# Altium schematic symbol library kmilo17pet-TI_BattMgmt.SchLib: 950 symbols (part 41 of 60)
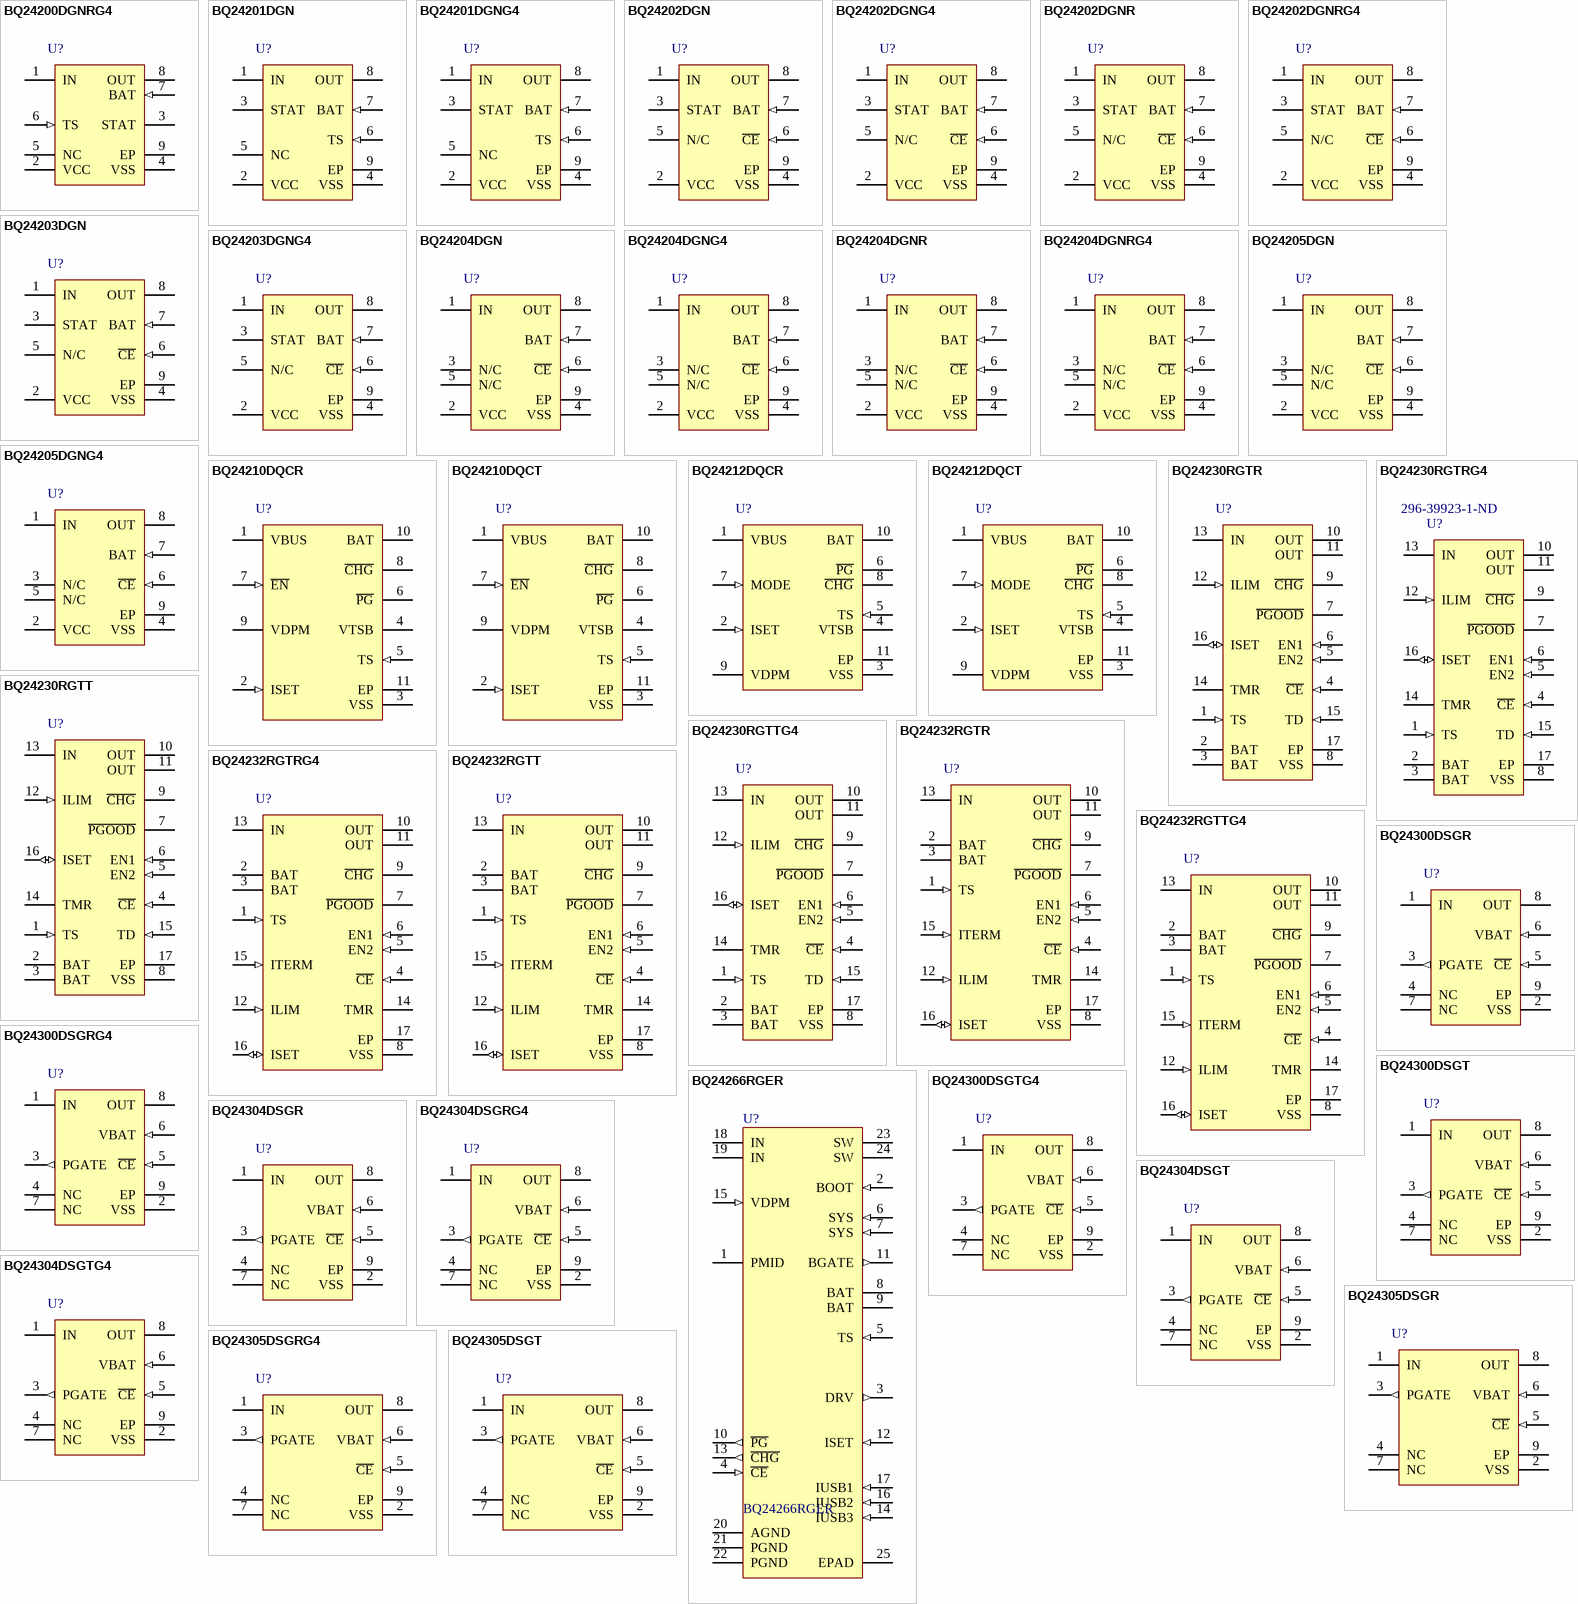
[diagram p74: symbols BQ24200DGNRG4 to BQ24305DSGT]

## BQ24232RGTR
designator U?
USB Friendly 0.5 A Li+ Charger with Dynamic Power Management, 10.5 V OVP, 4.3 V, -40 to 85 degC, 16-pin QFN (RGT), Green (RoHS & no Sb/Br); PartNumber: BQ24232RGTR; Manufacturer: Texas Instruments; Lead Acid: N; SubFamily: Battery Charge Management; Vin(Min)(V): 4.3; DatasheetVersion: SLUS821C; PackageVersion: revH, Oct-2011; PackageReference: RGT16-1700X1700TP; PackageDescription: 16-Pin Plastic Quad Flat No-Lead, 3 x 3 mm Body, 0.5 mm Pitch, 1.7 x 1.7 mm Exposed Pad; Supplier 1: Digi-Key; Supplier Part Number 1: BQ24232RGTR-ND; Eco-Plan: Green (RoHS & no Sb/Br); Li-Ion: N; Li-Polymer: N; NiCd: N; NiMH: N; Over Voltage Protection: N; Mounting Technology: Surface Mount; Code_JEDEC: MO-220; ComponentLink1Description: Datasheet; ComponentLink1URL: http://www.ti.com/general/docs/lit/getliterature.tsp?genericPartNumber=BQ24232&fileType=pdf
footprint RGT16-1700X1700TP (QFN, 16-Leads, Body 3x3mm, Pitch 0.5mm, Thermal Pad 1.7x1.7mm, TI Recommended)
pins: 1 TS (in) "External NTC Thermistor Input. Connect the TS input to the NTC thermistor in the battery pack. TS monitors a 10-k ohm NTC thermistor. For applications that do not utilize the TS function, connect a 10-k ohm fixed resistor (See Datasheet)", 2 BAT (power) "Charger Power Stage Output and Battery Voltage Sense Input. Connect BAT to the positive terminal of the battery. Bypass BAT to VSS with a 4.7-uF to 47-uF ceramic capacitor.", 3 BAT (power) "Charger Power Stage Output and Battery Voltage Sense Input. Connect BAT to the positive terminal of the battery. Bypass BAT to VSS with a 4.7-uF to 47-uF ceramic capacitor.", 4 ~{CE} (in) "Charge Enable Active-Low Input. Connect C\E\ to a high logic level to place the battery charger in standby mode. In standby mode, OUT is active and battery supplement mode is still available. Connect C\E\ to a low logic (See Datasheet)", 5 EN2 (in) "Input Current Limit Configuration Inputs. Use EN2 control the maximum input current and enable USB compliance. See Table 2 for the description of the operation states. EN2 is internally pulled down with ~285 k ohm. Do not (See Datasheet)", 6 EN1 (in) "Input Current Limit Configuration Inputs. Use EN1 control the maximum input current and enable USB compliance. See Table 2 for the description of the operation states. EN1  is internally pulled down with ~285 k ohm. Do not (See Datasheet)", 7 ~{PGOOD} (hiz) "Open-drain Power Good Status Indication Output. P\G\O\O\D\ pulls to VSS when a valid input source is detected. P\G\O\O\D\ is high-impedance when the input power is not within specified limits. Connect P\G\O\O\D\ to the (See Datasheet)", 8 VSS (power) "Ground. Connect to the thermal pad and to the ground rail of the circuit.", 9 ~{CHG} (hiz) "Open-Drain Charging Status Indication Output. C\H\G\ pulls to VSS when the battery is charging. C\H\G\ is high impedance when charging is complete and when charger is disabled.", 10 OUT (power) "System Supply Output. OUT provides a regulated output when the input is below the OVP threshold and above the regulation voltage. When the input is out of the operation range, OUT is connected to VBAT. Connect OUT to the (See Datasheet)", 11 OUT (power) "System Supply Output. OUT provides a regulated output when the input is below the OVP threshold and above the regulation voltage. When the input is out of the operation range, OUT is connected to VBAT. Connect OUT to the (See Datasheet)", 12 ILIM (in) "Adjustable Current Limit Programming Input. Connect a 3.1-k ohm to 7.8-k ohm resistor from ILIM to VSS to program the maximum input current (EN2=1, EN1=0). The input current includes the system load and the battery charge (See Datasheet)", 13 IN (power) "Input Power Connection. Connect IN to the connected to external DC supply (AC adapter or USB port). The input operating range is 4.35 V to 6.6 V. The input can accept voltages up to 26 V without damage but operation is (See Datasheet)", 14 TMR "Timer Programming Input. TMR controls the precharge and fast-charge safety timers. Connect TMR to VSS to disable all safety timers. Connect a 18-k ohm to 72-k ohm resistor between TMR and VSS to program the timers a desired (See Datasheet)", 15 ITERM (in) "Termination Current Programming Input. Connect a 0-ohm to 15-k ohm resistor from ITERM to VSS to program the termination current. Leave ITERM unconnected to set the termination current to the internal default 10% threshold.", 16 ISET (io) "Fast-Charge Current Programming Input. Connect a 3-k ohm to 36-k ohm resistor from ISET to VSS to program the fast-charge current level. Charging is disabled if ISET is left unconnected. While charging, the voltage at ISET (See Datasheet)", 17 EP (power) "An internal electrical connection exists between the exposed thermal pad and the VSS pin of the device. The thermal pad must be connected to the same potential as the VSS pin on the printed-circuit board. Do not use the (See Datasheet)"

## BQ24232RGTRG4
designator U?
USB Friendly 0.5 A Li+ Charger with Dynamic Power Management, 10.5 V OVP, 4.3 V, -40 to 85 degC, 16-pin QFN (RGT), Green (RoHS & no Sb/Br); PartNumber: BQ24232RGTRG4; Manufacturer: Texas Instruments; Lead Acid: N; SubFamily: Battery Charge Management; Vin(Min)(V): 4.3; DatasheetVersion: SLUS821C; PackageVersion: revH, Oct-2011; PackageReference: RGT16-1700X1700TP; PackageDescription: 16-Pin Plastic Quad Flat No-Lead, 3 x 3 mm Body, 0.5 mm Pitch, 1.7 x 1.7 mm Exposed Pad; Supplier 1: Digi-Key; Supplier Part Number 1: BQ24232RGTRG4-ND; Eco-Plan: Green (RoHS & no Sb/Br); Li-Ion: N; Li-Polymer: N; NiCd: N; NiMH: N; Over Voltage Protection: N; Mounting Technology: Surface Mount; Code_JEDEC: MO-220; ComponentLink1Description: Datasheet; ComponentLink1URL: http://www.ti.com/general/docs/lit/getliterature.tsp?genericPartNumber=BQ24232&fileType=pdf
footprint RGT16-1700X1700TP (QFN, 16-Leads, Body 3x3mm, Pitch 0.5mm, Thermal Pad 1.7x1.7mm, TI Recommended)
pins: 1 TS (in) "External NTC Thermistor Input. Connect the TS input to the NTC thermistor in the battery pack. TS monitors a 10-k ohm NTC thermistor. For applications that do not utilize the TS function, connect a 10-k ohm fixed resistor (See Datasheet)", 2 BAT (power) "Charger Power Stage Output and Battery Voltage Sense Input. Connect BAT to the positive terminal of the battery. Bypass BAT to VSS with a 4.7-uF to 47-uF ceramic capacitor.", 3 BAT (power) "Charger Power Stage Output and Battery Voltage Sense Input. Connect BAT to the positive terminal of the battery. Bypass BAT to VSS with a 4.7-uF to 47-uF ceramic capacitor.", 4 ~{CE} (in) "Charge Enable Active-Low Input. Connect C\E\ to a high logic level to place the battery charger in standby mode. In standby mode, OUT is active and battery supplement mode is still available. Connect C\E\ to a low logic (See Datasheet)", 5 EN2 (in) "Input Current Limit Configuration Inputs. Use EN2 control the maximum input current and enable USB compliance. See Table 2 for the description of the operation states. EN2 is internally pulled down with ~285 k ohm. Do not (See Datasheet)", 6 EN1 (in) "Input Current Limit Configuration Inputs. Use EN1 control the maximum input current and enable USB compliance. See Table 2 for the description of the operation states. EN1  is internally pulled down with ~285 k ohm. Do not (See Datasheet)", 7 ~{PGOOD} (hiz) "Open-drain Power Good Status Indication Output. P\G\O\O\D\ pulls to VSS when a valid input source is detected. P\G\O\O\D\ is high-impedance when the input power is not within specified limits. Connect P\G\O\O\D\ to the (See Datasheet)", 8 VSS (power) "Ground. Connect to the thermal pad and to the ground rail of the circuit.", 9 ~{CHG} (hiz) "Open-Drain Charging Status Indication Output. C\H\G\ pulls to VSS when the battery is charging. C\H\G\ is high impedance when charging is complete and when charger is disabled.", 10 OUT (power) "System Supply Output. OUT provides a regulated output when the input is below the OVP threshold and above the regulation voltage. When the input is out of the operation range, OUT is connected to VBAT. Connect OUT to the (See Datasheet)", 11 OUT (power) "System Supply Output. OUT provides a regulated output when the input is below the OVP threshold and above the regulation voltage. When the input is out of the operation range, OUT is connected to VBAT. Connect OUT to the (See Datasheet)", 12 ILIM (in) "Adjustable Current Limit Programming Input. Connect a 3.1-k ohm to 7.8-k ohm resistor from ILIM to VSS to program the maximum input current (EN2=1, EN1=0). The input current includes the system load and the battery charge (See Datasheet)", 13 IN (power) "Input Power Connection. Connect IN to the connected to external DC supply (AC adapter or USB port). The input operating range is 4.35 V to 6.6 V. The input can accept voltages up to 26 V without damage but operation is (See Datasheet)", 14 TMR "Timer Programming Input. TMR controls the precharge and fast-charge safety timers. Connect TMR to VSS to disable all safety timers. Connect a 18-k ohm to 72-k ohm resistor between TMR and VSS to program the timers a desired (See Datasheet)", 15 ITERM (in) "Termination Current Programming Input. Connect a 0-ohm to 15-k ohm resistor from ITERM to VSS to program the termination current. Leave ITERM unconnected to set the termination current to the internal default 10% threshold.", 16 ISET (io) "Fast-Charge Current Programming Input. Connect a 3-k ohm to 36-k ohm resistor from ISET to VSS to program the fast-charge current level. Charging is disabled if ISET is left unconnected. While charging, the voltage at ISET (See Datasheet)", 17 EP (power) "An internal electrical connection exists between the exposed thermal pad and the VSS pin of the device. The thermal pad must be connected to the same potential as the VSS pin on the printed-circuit board. Do not use the (See Datasheet)"

## BQ24232RGTT
designator U?
USB Friendly 0.5 A Li+ Charger with Dynamic Power Management, 10.5 V OVP, 4.3 V, -40 to 85 degC, 16-pin QFN (RGT), Green (RoHS & no Sb/Br); PartNumber: BQ24232RGTT; Manufacturer: Texas Instruments; Lead Acid: N; SubFamily: Battery Charge Management; Vin(Min)(V): 4.3; DatasheetVersion: SLUS821C; PackageVersion: revH, Oct-2011; PackageReference: RGT16-1700X1700TP; PackageDescription: 16-Pin Plastic Quad Flat No-Lead, 3 x 3 mm Body, 0.5 mm Pitch, 1.7 x 1.7 mm Exposed Pad; Supplier 1: Digi-Key; Supplier Part Number 1: 296-24668-2-ND; Supplier Part Number 3: 296-24668-6-ND; Eco-Plan: Green (RoHS & no Sb/Br); Li-Ion: N; Li-Polymer: N; NiCd: N; NiMH: N; Over Voltage Protection: N; Mounting Technology: Surface Mount; Code_JEDEC: MO-220; ComponentLink1Description: Datasheet; ComponentLink1URL: http://www.ti.com/general/docs/lit/getliterature.tsp?genericPartNumber=BQ24232&fileType=pdf
footprint RGT16-1700X1700TP (QFN, 16-Leads, Body 3x3mm, Pitch 0.5mm, Thermal Pad 1.7x1.7mm, TI Recommended)
pins: 1 TS (in) "External NTC Thermistor Input. Connect the TS input to the NTC thermistor in the battery pack. TS monitors a 10-k ohm NTC thermistor. For applications that do not utilize the TS function, connect a 10-k ohm fixed resistor (See Datasheet)", 2 BAT (power) "Charger Power Stage Output and Battery Voltage Sense Input. Connect BAT to the positive terminal of the battery. Bypass BAT to VSS with a 4.7-uF to 47-uF ceramic capacitor.", 3 BAT (power) "Charger Power Stage Output and Battery Voltage Sense Input. Connect BAT to the positive terminal of the battery. Bypass BAT to VSS with a 4.7-uF to 47-uF ceramic capacitor.", 4 ~{CE} (in) "Charge Enable Active-Low Input. Connect C\E\ to a high logic level to place the battery charger in standby mode. In standby mode, OUT is active and battery supplement mode is still available. Connect C\E\ to a low logic (See Datasheet)", 5 EN2 (in) "Input Current Limit Configuration Inputs. Use EN2 control the maximum input current and enable USB compliance. See Table 2 for the description of the operation states. EN2 is internally pulled down with ~285 k ohm. Do not (See Datasheet)", 6 EN1 (in) "Input Current Limit Configuration Inputs. Use EN1 control the maximum input current and enable USB compliance. See Table 2 for the description of the operation states. EN1  is internally pulled down with ~285 k ohm. Do not (See Datasheet)", 7 ~{PGOOD} (hiz) "Open-drain Power Good Status Indication Output. P\G\O\O\D\ pulls to VSS when a valid input source is detected. P\G\O\O\D\ is high-impedance when the input power is not within specified limits. Connect P\G\O\O\D\ to the (See Datasheet)", 8 VSS (power) "Ground. Connect to the thermal pad and to the ground rail of the circuit.", 9 ~{CHG} (hiz) "Open-Drain Charging Status Indication Output. C\H\G\ pulls to VSS when the battery is charging. C\H\G\ is high impedance when charging is complete and when charger is disabled.", 10 OUT (power) "System Supply Output. OUT provides a regulated output when the input is below the OVP threshold and above the regulation voltage. When the input is out of the operation range, OUT is connected to VBAT. Connect OUT to the (See Datasheet)", 11 OUT (power) "System Supply Output. OUT provides a regulated output when the input is below the OVP threshold and above the regulation voltage. When the input is out of the operation range, OUT is connected to VBAT. Connect OUT to the (See Datasheet)", 12 ILIM (in) "Adjustable Current Limit Programming Input. Connect a 3.1-k ohm to 7.8-k ohm resistor from ILIM to VSS to program the maximum input current (EN2=1, EN1=0). The input current includes the system load and the battery charge (See Datasheet)", 13 IN (power) "Input Power Connection. Connect IN to the connected to external DC supply (AC adapter or USB port). The input operating range is 4.35 V to 6.6 V. The input can accept voltages up to 26 V without damage but operation is (See Datasheet)", 14 TMR "Timer Programming Input. TMR controls the precharge and fast-charge safety timers. Connect TMR to VSS to disable all safety timers. Connect a 18-k ohm to 72-k ohm resistor between TMR and VSS to program the timers a desired (See Datasheet)", 15 ITERM (in) "Termination Current Programming Input. Connect a 0-ohm to 15-k ohm resistor from ITERM to VSS to program the termination current. Leave ITERM unconnected to set the termination current to the internal default 10% threshold.", 16 ISET (io) "Fast-Charge Current Programming Input. Connect a 3-k ohm to 36-k ohm resistor from ISET to VSS to program the fast-charge current level. Charging is disabled if ISET is left unconnected. While charging, the voltage at ISET (See Datasheet)", 17 EP (power) "An internal electrical connection exists between the exposed thermal pad and the VSS pin of the device. The thermal pad must be connected to the same potential as the VSS pin on the printed-circuit board. Do not use the (See Datasheet)"

## BQ24232RGTTG4
designator U?
USB Friendly 0.5 A Li+ Charger with Dynamic Power Management, 10.5 V OVP, 4.3 V, -40 to 85 degC, 16-pin QFN (RGT), Green (RoHS & no Sb/Br); PartNumber: BQ24232RGTTG4; Manufacturer: Texas Instruments; Lead Acid: N; SubFamily: Battery Charge Management; Vin(Min)(V): 4.3; DatasheetVersion: SLUS821C; PackageVersion: revH, Oct-2011; PackageReference: RGT16-1700X1700TP; PackageDescription: 16-Pin Plastic Quad Flat No-Lead, 3 x 3 mm Body, 0.5 mm Pitch, 1.7 x 1.7 mm Exposed Pad; Supplier 1: Digi-Key; Supplier Part Number 1: BQ24232RGTTG4-ND; Eco-Plan: Green (RoHS & no Sb/Br); Li-Ion: N; Li-Polymer: N; NiCd: N; NiMH: N; Over Voltage Protection: N; Mounting Technology: Surface Mount; Code_JEDEC: MO-220; ComponentLink1Description: Datasheet; ComponentLink1URL: http://www.ti.com/general/docs/lit/getliterature.tsp?genericPartNumber=BQ24232&fileType=pdf
footprint RGT16-1700X1700TP (QFN, 16-Leads, Body 3x3mm, Pitch 0.5mm, Thermal Pad 1.7x1.7mm, TI Recommended)
pins: 1 TS (in) "External NTC Thermistor Input. Connect the TS input to the NTC thermistor in the battery pack. TS monitors a 10-k ohm NTC thermistor. For applications that do not utilize the TS function, connect a 10-k ohm fixed resistor (See Datasheet)", 2 BAT (power) "Charger Power Stage Output and Battery Voltage Sense Input. Connect BAT to the positive terminal of the battery. Bypass BAT to VSS with a 4.7-uF to 47-uF ceramic capacitor.", 3 BAT (power) "Charger Power Stage Output and Battery Voltage Sense Input. Connect BAT to the positive terminal of the battery. Bypass BAT to VSS with a 4.7-uF to 47-uF ceramic capacitor.", 4 ~{CE} (in) "Charge Enable Active-Low Input. Connect C\E\ to a high logic level to place the battery charger in standby mode. In standby mode, OUT is active and battery supplement mode is still available. Connect C\E\ to a low logic (See Datasheet)", 5 EN2 (in) "Input Current Limit Configuration Inputs. Use EN2 control the maximum input current and enable USB compliance. See Table 2 for the description of the operation states. EN2 is internally pulled down with ~285 k ohm. Do not (See Datasheet)", 6 EN1 (in) "Input Current Limit Configuration Inputs. Use EN1 control the maximum input current and enable USB compliance. See Table 2 for the description of the operation states. EN1  is internally pulled down with ~285 k ohm. Do not (See Datasheet)", 7 ~{PGOOD} (hiz) "Open-drain Power Good Status Indication Output. P\G\O\O\D\ pulls to VSS when a valid input source is detected. P\G\O\O\D\ is high-impedance when the input power is not within specified limits. Connect P\G\O\O\D\ to the (See Datasheet)", 8 VSS (power) "Ground. Connect to the thermal pad and to the ground rail of the circuit.", 9 ~{CHG} (hiz) "Open-Drain Charging Status Indication Output. C\H\G\ pulls to VSS when the battery is charging. C\H\G\ is high impedance when charging is complete and when charger is disabled.", 10 OUT (power) "System Supply Output. OUT provides a regulated output when the input is below the OVP threshold and above the regulation voltage. When the input is out of the operation range, OUT is connected to VBAT. Connect OUT to the (See Datasheet)", 11 OUT (power) "System Supply Output. OUT provides a regulated output when the input is below the OVP threshold and above the regulation voltage. When the input is out of the operation range, OUT is connected to VBAT. Connect OUT to the (See Datasheet)", 12 ILIM (in) "Adjustable Current Limit Programming Input. Connect a 3.1-k ohm to 7.8-k ohm resistor from ILIM to VSS to program the maximum input current (EN2=1, EN1=0). The input current includes the system load and the battery charge (See Datasheet)", 13 IN (power) "Input Power Connection. Connect IN to the connected to external DC supply (AC adapter or USB port). The input operating range is 4.35 V to 6.6 V. The input can accept voltages up to 26 V without damage but operation is (See Datasheet)", 14 TMR "Timer Programming Input. TMR controls the precharge and fast-charge safety timers. Connect TMR to VSS to disable all safety timers. Connect a 18-k ohm to 72-k ohm resistor between TMR and VSS to program the timers a desired (See Datasheet)", 15 ITERM (in) "Termination Current Programming Input. Connect a 0-ohm to 15-k ohm resistor from ITERM to VSS to program the termination current. Leave ITERM unconnected to set the termination current to the internal default 10% threshold.", 16 ISET (io) "Fast-Charge Current Programming Input. Connect a 3-k ohm to 36-k ohm resistor from ISET to VSS to program the fast-charge current level. Charging is disabled if ISET is left unconnected. While charging, the voltage at ISET (See Datasheet)", 17 EP (power) "An internal electrical connection exists between the exposed thermal pad and the VSS pin of the device. The thermal pad must be connected to the same potential as the VSS pin on the printed-circuit board. Do not use the (See Datasheet)"

## BQ24266RGER
designator U?
IC BATT CHARGER LI-ION 24VQFN; Manufacturer: Texas Instruments; Battery Chemistry: Lithium-Ion; Number of Cells: 1; Current - Charging: Constant - Programmable; Fault Protection: Over Temperature, Over Voltage; Charge Current - Max: 3A; Battery Pack Voltage: 4.2V; Voltage - Supply (Max): 14V; Interface: USB; Supplier 1: Digi-Key; Manufacturer Part Number: BQ24266RGER; RoHS: RoHS Compliant; Category: Integrated Circuits (ICs); Stock 1: 6527; Pricing 1: 1=4.3, 10=3.861, 100=3.1634, 500=2.69294, 1000=2.27115 (USD); Packaging: Cut Tape (CT); Part Status: Active; Programmable Features: -; Operating Temperature: -40°C ~ 85°C (TA); Package / Case: 24-VFQFN Exposed Pad; Supplier Device Package: 24-VQFN (4x4); Base Part Number: BQ24266; ComponentLink1URL: http://www.ti.com/lit/ds/symlink/bq24266.pdf; ComponentLink1Description: http://www.ti.com/lit/ds/symlink/bq24266.pdf; Value: BQ24266RGER; Supplier Part Number 1: 296-39923-1-ND
footprint 24VQFN_4x4 (QFN, 24-Leads, Body 4.00x4.00mm, Pitch 0.50mm, Thermal Pad 2.70x2.70mm, IPC Medium Density)
pins: 1 PMID, 2 BOOT (in), 3 DRV (out), 4 ~{CE} (in), 5 TS (in), 6 SYS (in), 7 SYS (in), 8 BAT, 9 BAT, 10 ~{PG} (out), 11 BGATE (out), 12 ISET (in), 13 ~{CHG} (out), 14 IUSB3 (in), 15 VDPM (in), 16 IUSB2 (in), 17 IUSB1 (in), 18 IN, 19 IN, 20 AGND, 21 PGND, 22 PGND, 23 SW, 24 SW, 25 EPAD

## BQ24300DSGR
designator U?
Charger Front End Protection IC with 30 V Max Vin and 5.5 V LDO Output, 0 to 125 degC, 8-pin WSON (DSG), Green (RoHS & no Sb/Br); PartNumber: BQ24300DSGR; Manufacturer: Texas Instruments; Lead Acid: N; DatasheetVersion: SLUS764C; PackageVersion: revB, Oct-2010; PackageReference: DSG8-1600X900TP; PackageDescription: 8-Pin Plastic Small Outline No-Lead, 2 x 2 x 0.8 mm Body, 0.5 mm Pitch, Exposed Pad; Supplier 1: Digi-Key; Supplier Part Number 1: 296-23075-2-ND; Supplier Part Number 3: 296-23075-6-ND; Eco-Plan: Green (RoHS & no Sb/Br); Li-Ion: N; Li-Polymer: N; NiCd: N; NiMH: N; Over Voltage Protection: N; SubFamily: Charger Front End Protection; Mounting Technology: Surface Mount; Code_JEDEC: MO-229; ComponentLink1Description: Datasheet; ComponentLink1URL: http://www.ti.com/general/docs/lit/getliterature.tsp?genericPartNumber=BQ24300&fileType=pdf
footprint DSG8-1600X900TP (SON, 8-Leads, Body 2x2mm, Pitch 0.5mm, Thermal Pad 1.6x0.9mm, TI Recommended)
pins: 1 IN (power) "Input power, connect to external DC supply. Connect external 0.1uF (minimum) ceramic capacitor to VSS", 2 VSS (power) "Ground terminal", 3 PGATE (out) "Gate drive for optional external P-FET", 4 NC "Do not connect to any external circuit. These pins may have internal connections used for test purposes.", 5 ~{CE} (in) "Chip enable input. Active low. When C\E\ = Hi, the input FET is off. Internally pulled down.", 6 VBAT (in) "Battery voltage sense input. Connect to pack positive terminal through a resistor.", 7 NC "Do not connect to any external circuit. These pins may have internal connections used for test purposes.", 8 OUT (power) "Output terminal to the charging system. Connect external 1uF capacitor (minimum) ceramic capacitor to VSS", 9 EP (power) "There is an internal electrical connection between the exposed thermal pad and the VSS pin of the device. The thermal pad must be connected to the same potential as the VSS pin on the printed circuit board. Do not use the (See Datasheet)"

## BQ24300DSGRG4
designator U?
Charger Front End Protection IC with 30 V Max Vin and 5.5 V LDO Output, 0 to 125 degC, 8-pin WSON (DSG), Green (RoHS & no Sb/Br); PartNumber: BQ24300DSGRG4; Manufacturer: Texas Instruments; Lead Acid: N; DatasheetVersion: SLUS764C; PackageVersion: revB, Oct-2010; PackageReference: DSG8-1600X900TP; PackageDescription: 8-Pin Plastic Small Outline No-Lead, 2 x 2 x 0.8 mm Body, 0.5 mm Pitch, Exposed Pad; Supplier 1: Digi-Key; Supplier Part Number 1: BQ24300DSGRG4-ND; Eco-Plan: Green (RoHS & no Sb/Br); Li-Ion: N; Li-Polymer: N; NiCd: N; NiMH: N; Over Voltage Protection: N; SubFamily: Charger Front End Protection; Mounting Technology: Surface Mount; Code_JEDEC: MO-229; ComponentLink1Description: Datasheet; ComponentLink1URL: http://www.ti.com/general/docs/lit/getliterature.tsp?genericPartNumber=BQ24300&fileType=pdf
footprint DSG8-1600X900TP (SON, 8-Leads, Body 2x2mm, Pitch 0.5mm, Thermal Pad 1.6x0.9mm, TI Recommended)
pins: 1 IN (power) "Input power, connect to external DC supply. Connect external 0.1uF (minimum) ceramic capacitor to VSS", 2 VSS (power) "Ground terminal", 3 PGATE (out) "Gate drive for optional external P-FET", 4 NC "Do not connect to any external circuit. These pins may have internal connections used for test purposes.", 5 ~{CE} (in) "Chip enable input. Active low. When C\E\ = Hi, the input FET is off. Internally pulled down.", 6 VBAT (in) "Battery voltage sense input. Connect to pack positive terminal through a resistor.", 7 NC "Do not connect to any external circuit. These pins may have internal connections used for test purposes.", 8 OUT (power) "Output terminal to the charging system. Connect external 1uF capacitor (minimum) ceramic capacitor to VSS", 9 EP (power) "There is an internal electrical connection between the exposed thermal pad and the VSS pin of the device. The thermal pad must be connected to the same potential as the VSS pin on the printed circuit board. Do not use the (See Datasheet)"

## BQ24300DSGT
designator U?
Charger Front End Protection IC with 30 V Max Vin and 5.5 V LDO Output, 0 to 125 degC, 8-pin WSON (DSG), Green (RoHS & no Sb/Br); PartNumber: BQ24300DSGT; Manufacturer: Texas Instruments; Lead Acid: N; DatasheetVersion: SLUS764C; PackageVersion: revB, Oct-2010; PackageReference: DSG8-1600X900TP; PackageDescription: 8-Pin Plastic Small Outline No-Lead, 2 x 2 x 0.8 mm Body, 0.5 mm Pitch, Exposed Pad; Supplier 1: Digi-Key; Supplier Part Number 1: BQ24300DSGT-ND; Eco-Plan: Green (RoHS & no Sb/Br); Li-Ion: N; Li-Polymer: N; NiCd: N; NiMH: N; Over Voltage Protection: N; SubFamily: Charger Front End Protection; Mounting Technology: Surface Mount; Code_JEDEC: MO-229; ComponentLink1Description: Datasheet; ComponentLink1URL: http://www.ti.com/general/docs/lit/getliterature.tsp?genericPartNumber=BQ24300&fileType=pdf
footprint DSG8-1600X900TP (SON, 8-Leads, Body 2x2mm, Pitch 0.5mm, Thermal Pad 1.6x0.9mm, TI Recommended)
pins: 1 IN (power) "Input power, connect to external DC supply. Connect external 0.1uF (minimum) ceramic capacitor to VSS", 2 VSS (power) "Ground terminal", 3 PGATE (out) "Gate drive for optional external P-FET", 4 NC "Do not connect to any external circuit. These pins may have internal connections used for test purposes.", 5 ~{CE} (in) "Chip enable input. Active low. When C\E\ = Hi, the input FET is off. Internally pulled down.", 6 VBAT (in) "Battery voltage sense input. Connect to pack positive terminal through a resistor.", 7 NC "Do not connect to any external circuit. These pins may have internal connections used for test purposes.", 8 OUT (power) "Output terminal to the charging system. Connect external 1uF capacitor (minimum) ceramic capacitor to VSS", 9 EP (power) "There is an internal electrical connection between the exposed thermal pad and the VSS pin of the device. The thermal pad must be connected to the same potential as the VSS pin on the printed circuit board. Do not use the (See Datasheet)"

## BQ24300DSGTG4
designator U?
Charger Front End Protection IC with 30 V Max Vin and 5.5 V LDO Output, 0 to 125 degC, 8-pin WSON (DSG), Green (RoHS & no Sb/Br); PartNumber: BQ24300DSGTG4; Manufacturer: Texas Instruments; Lead Acid: N; DatasheetVersion: SLUS764C; PackageVersion: revB, Oct-2010; PackageReference: DSG8-1600X900TP; PackageDescription: 8-Pin Plastic Small Outline No-Lead, 2 x 2 x 0.8 mm Body, 0.5 mm Pitch, Exposed Pad; Supplier 1: Digi-Key; Supplier Part Number 1: BQ24300DSGTG4-ND; Eco-Plan: Green (RoHS & no Sb/Br); Li-Ion: N; Li-Polymer: N; NiCd: N; NiMH: N; Over Voltage Protection: N; SubFamily: Charger Front End Protection; Mounting Technology: Surface Mount; Code_JEDEC: MO-229; ComponentLink1Description: Datasheet; ComponentLink1URL: http://www.ti.com/general/docs/lit/getliterature.tsp?genericPartNumber=BQ24300&fileType=pdf
footprint DSG8-1600X900TP (SON, 8-Leads, Body 2x2mm, Pitch 0.5mm, Thermal Pad 1.6x0.9mm, TI Recommended)
pins: 1 IN (power) "Input power, connect to external DC supply. Connect external 0.1uF (minimum) ceramic capacitor to VSS", 2 VSS (power) "Ground terminal", 3 PGATE (out) "Gate drive for optional external P-FET", 4 NC "Do not connect to any external circuit. These pins may have internal connections used for test purposes.", 5 ~{CE} (in) "Chip enable input. Active low. When C\E\ = Hi, the input FET is off. Internally pulled down.", 6 VBAT (in) "Battery voltage sense input. Connect to pack positive terminal through a resistor.", 7 NC "Do not connect to any external circuit. These pins may have internal connections used for test purposes.", 8 OUT (power) "Output terminal to the charging system. Connect external 1uF capacitor (minimum) ceramic capacitor to VSS", 9 EP (power) "There is an internal electrical connection between the exposed thermal pad and the VSS pin of the device. The thermal pad must be connected to the same potential as the VSS pin on the printed circuit board. Do not use the (See Datasheet)"

## BQ24304DSGR
designator U?
Charger Front End Protection IC with 30 V Max Vin and 4.5 V LDO Output, 0 to 125 degC, 8-pin WSON (DSG), Green (RoHS & no Sb/Br); PartNumber: BQ24304DSGR; Manufacturer: Texas Instruments; Lead Acid: N; DatasheetVersion: SLUS764C; PackageVersion: revB, Oct-2010; PackageReference: DSG8-1600X900TP; PackageDescription: 8-Pin Plastic Small Outline No-Lead, 2 x 2 x 0.8 mm Body, 0.5 mm Pitch, Exposed Pad; Supplier 1: Digi-Key; Supplier Part Number 1: 296-23076-2-ND; Supplier Part Number 3: 296-23076-6-ND; Eco-Plan: Green (RoHS & no Sb/Br); Li-Ion: N; Li-Polymer: N; NiCd: N; NiMH: N; Over Voltage Protection: N; SubFamily: Charger Front End Protection; Mounting Technology: Surface Mount; Code_JEDEC: MO-229; ComponentLink1Description: Datasheet; ComponentLink1URL: http://www.ti.com/general/docs/lit/getliterature.tsp?genericPartNumber=BQ24304&fileType=pdf
footprint DSG8-1600X900TP (SON, 8-Leads, Body 2x2mm, Pitch 0.5mm, Thermal Pad 1.6x0.9mm, TI Recommended)
pins: 1 IN (power) "Input power, connect to external DC supply. Connect external 0.1uF (minimum) ceramic capacitor to VSS", 2 VSS (power) "Ground terminal", 3 PGATE (out) "Gate drive for optional external P-FET", 4 NC "Do not connect to any external circuit. These pins may have internal connections used for test purposes.", 5 ~{CE} (in) "Chip enable input. Active low. When C\E\ = Hi, the input FET is off. Internally pulled down.", 6 VBAT (in) "Battery voltage sense input. Connect to pack positive terminal through a resistor.", 7 NC "Do not connect to any external circuit. These pins may have internal connections used for test purposes.", 8 OUT (power) "Output terminal to the charging system. Connect external 1uF capacitor (minimum) ceramic capacitor to VSS", 9 EP (power) "There is an internal electrical connection between the exposed thermal pad and the VSS pin of the device. The thermal pad must be connected to the same potential as the VSS pin on the printed circuit board. Do not use the (See Datasheet)"

## BQ24304DSGRG4
designator U?
Charger Front End Protection IC with 30 V Max Vin and 4.5 V LDO Output, 0 to 125 degC, 8-pin WSON (DSG), Green (RoHS & no Sb/Br); PartNumber: BQ24304DSGRG4; Manufacturer: Texas Instruments; Lead Acid: N; DatasheetVersion: SLUS764C; PackageVersion: revB, Oct-2010; PackageReference: DSG8-1600X900TP; PackageDescription: 8-Pin Plastic Small Outline No-Lead, 2 x 2 x 0.8 mm Body, 0.5 mm Pitch, Exposed Pad; Supplier 1: Digi-Key; Supplier Part Number 1: BQ24304DSGRG4-ND; Eco-Plan: Green (RoHS & no Sb/Br); Li-Ion: N; Li-Polymer: N; NiCd: N; NiMH: N; Over Voltage Protection: N; SubFamily: Charger Front End Protection; Mounting Technology: Surface Mount; Code_JEDEC: MO-229; ComponentLink1Description: Datasheet; ComponentLink1URL: http://www.ti.com/general/docs/lit/getliterature.tsp?genericPartNumber=BQ24304&fileType=pdf
footprint DSG8-1600X900TP (SON, 8-Leads, Body 2x2mm, Pitch 0.5mm, Thermal Pad 1.6x0.9mm, TI Recommended)
pins: 1 IN (power) "Input power, connect to external DC supply. Connect external 0.1uF (minimum) ceramic capacitor to VSS", 2 VSS (power) "Ground terminal", 3 PGATE (out) "Gate drive for optional external P-FET", 4 NC "Do not connect to any external circuit. These pins may have internal connections used for test purposes.", 5 ~{CE} (in) "Chip enable input. Active low. When C\E\ = Hi, the input FET is off. Internally pulled down.", 6 VBAT (in) "Battery voltage sense input. Connect to pack positive terminal through a resistor.", 7 NC "Do not connect to any external circuit. These pins may have internal connections used for test purposes.", 8 OUT (power) "Output terminal to the charging system. Connect external 1uF capacitor (minimum) ceramic capacitor to VSS", 9 EP (power) "There is an internal electrical connection between the exposed thermal pad and the VSS pin of the device. The thermal pad must be connected to the same potential as the VSS pin on the printed circuit board. Do not use the (See Datasheet)"

## BQ24304DSGT
designator U?
Charger Front End Protection IC with 30 V Max Vin and 4.5 V LDO Output, 0 to 125 degC, 8-pin WSON (DSG), Green (RoHS & no Sb/Br); PartNumber: BQ24304DSGT; Manufacturer: Texas Instruments; Lead Acid: N; DatasheetVersion: SLUS764C; PackageVersion: revB, Oct-2010; PackageReference: DSG8-1600X900TP; PackageDescription: 8-Pin Plastic Small Outline No-Lead, 2 x 2 x 0.8 mm Body, 0.5 mm Pitch, Exposed Pad; Supplier 1: Digi-Key; Supplier Part Number 1: BQ24304DSGT-ND; Eco-Plan: Green (RoHS & no Sb/Br); Li-Ion: N; Li-Polymer: N; NiCd: N; NiMH: N; Over Voltage Protection: N; SubFamily: Charger Front End Protection; Mounting Technology: Surface Mount; Code_JEDEC: MO-229; ComponentLink1Description: Datasheet; ComponentLink1URL: http://www.ti.com/general/docs/lit/getliterature.tsp?genericPartNumber=BQ24304&fileType=pdf
footprint DSG8-1600X900TP (SON, 8-Leads, Body 2x2mm, Pitch 0.5mm, Thermal Pad 1.6x0.9mm, TI Recommended)
pins: 1 IN (power) "Input power, connect to external DC supply. Connect external 0.1uF (minimum) ceramic capacitor to VSS", 2 VSS (power) "Ground terminal", 3 PGATE (out) "Gate drive for optional external P-FET", 4 NC "Do not connect to any external circuit. These pins may have internal connections used for test purposes.", 5 ~{CE} (in) "Chip enable input. Active low. When C\E\ = Hi, the input FET is off. Internally pulled down.", 6 VBAT (in) "Battery voltage sense input. Connect to pack positive terminal through a resistor.", 7 NC "Do not connect to any external circuit. These pins may have internal connections used for test purposes.", 8 OUT (power) "Output terminal to the charging system. Connect external 1uF capacitor (minimum) ceramic capacitor to VSS", 9 EP (power) "There is an internal electrical connection between the exposed thermal pad and the VSS pin of the device. The thermal pad must be connected to the same potential as the VSS pin on the printed circuit board. Do not use the (See Datasheet)"

## BQ24304DSGTG4
designator U?
Charger Front End Protection IC with 30 V Max Vin and 4.5 V LDO Output, 0 to 125 degC, 8-pin WSON (DSG), Green (RoHS & no Sb/Br); PartNumber: BQ24304DSGTG4; Manufacturer: Texas Instruments; Lead Acid: N; DatasheetVersion: SLUS764C; PackageVersion: revB, Oct-2010; PackageReference: DSG8-1600X900TP; PackageDescription: 8-Pin Plastic Small Outline No-Lead, 2 x 2 x 0.8 mm Body, 0.5 mm Pitch, Exposed Pad; Supplier 1: Digi-Key; Supplier Part Number 1: BQ24304DSGTG4-ND; Eco-Plan: Green (RoHS & no Sb/Br); Li-Ion: N; Li-Polymer: N; NiCd: N; NiMH: N; Over Voltage Protection: N; SubFamily: Charger Front End Protection; Mounting Technology: Surface Mount; Code_JEDEC: MO-229; ComponentLink1Description: Datasheet; ComponentLink1URL: http://www.ti.com/general/docs/lit/getliterature.tsp?genericPartNumber=BQ24304&fileType=pdf
footprint DSG8-1600X900TP (SON, 8-Leads, Body 2x2mm, Pitch 0.5mm, Thermal Pad 1.6x0.9mm, TI Recommended)
pins: 1 IN (power) "Input power, connect to external DC supply. Connect external 0.1uF (minimum) ceramic capacitor to VSS", 2 VSS (power) "Ground terminal", 3 PGATE (out) "Gate drive for optional external P-FET", 4 NC "Do not connect to any external circuit. These pins may have internal connections used for test purposes.", 5 ~{CE} (in) "Chip enable input. Active low. When C\E\ = Hi, the input FET is off. Internally pulled down.", 6 VBAT (in) "Battery voltage sense input. Connect to pack positive terminal through a resistor.", 7 NC "Do not connect to any external circuit. These pins may have internal connections used for test purposes.", 8 OUT (power) "Output terminal to the charging system. Connect external 1uF capacitor (minimum) ceramic capacitor to VSS", 9 EP (power) "There is an internal electrical connection between the exposed thermal pad and the VSS pin of the device. The thermal pad must be connected to the same potential as the VSS pin on the printed circuit board. Do not use the (See Datasheet)"

## BQ24305DSGR
designator U?
Overvoltage and Overcurrent Protection IC and Li+ Charger Front End Protection IC, 0 to 125 degC, 8-pin WSON (DSG), Green (RoHS & no Sb/Br); PartNumber: BQ24305DSGR; Manufacturer: Texas Instruments; Lead Acid: N; DatasheetVersion: SLUS764C; PackageVersion: revB, Oct-2010; PackageReference: DSG8-1600X900TP; PackageDescription: 8-Pin Plastic Small Outline No-Lead, 2 x 2 x 0.8 mm Body, 0.5 mm Pitch, Exposed Pad; Supplier 1: Digi-Key; Supplier Part Number 1: BQ24305DSGR-ND; Eco-Plan: Green (RoHS & no Sb/Br); Li-Ion: N; Li-Polymer: N; NiCd: N; NiMH: N; Over Voltage Protection: N; SubFamily: Charger Front End Protection; Mounting Technology: Surface Mount; Code_JEDEC: MO-229; ComponentLink1Description: Datasheet; ComponentLink1URL: http://www.ti.com/general/docs/lit/getliterature.tsp?genericPartNumber=BQ24305&fileType=pdf
footprint DSG8-1600X900TP (SON, 8-Leads, Body 2x2mm, Pitch 0.5mm, Thermal Pad 1.6x0.9mm, TI Recommended)
pins: 1 IN (power) "Input power, connect to external DC supply. Connect external 0.1uF (minimum) ceramic capacitor to VSS", 2 VSS (power) "Ground terminal", 3 PGATE (out) "Gate drive for optional external P-FET", 4 NC "Do not connect to any external circuit. These pins may have internal connections used for test purposes.", 5 ~{CE} (in) "Chip enable input. Active low. When C\E\ = Hi, the input FET is off. Internally pulled down.", 6 VBAT (in) "Battery voltage sense input. Connect to pack positive terminal through a resistor.", 7 NC "Do not connect to any external circuit. These pins may have internal connections used for test purposes.", 8 OUT (power) "Output terminal to the charging system. Connect external 1uF capacitor (minimum) ceramic capacitor to VSS", 9 EP (power) "There is an internal electrical connection between the exposed thermal pad and the VSS pin of the device. The thermal pad must be connected to the same potential as the VSS pin on the printed circuit board. Do not use the (See Datasheet)"

## BQ24305DSGRG4
designator U?
Overvoltage and Overcurrent Protection IC and Li+ Charger Front End Protection IC, 0 to 125 degC, 8-pin WSON (DSG), Green (RoHS & no Sb/Br); PartNumber: BQ24305DSGRG4; Manufacturer: Texas Instruments; Lead Acid: N; DatasheetVersion: SLUS764C; PackageVersion: revB, Oct-2010; PackageReference: DSG8-1600X900TP; PackageDescription: 8-Pin Plastic Small Outline No-Lead, 2 x 2 x 0.8 mm Body, 0.5 mm Pitch, Exposed Pad; Supplier 1: Digi-Key; Supplier Part Number 1: BQ24305DSGRG4-ND; Eco-Plan: Green (RoHS & no Sb/Br); Li-Ion: N; Li-Polymer: N; NiCd: N; NiMH: N; Over Voltage Protection: N; SubFamily: Charger Front End Protection; Mounting Technology: Surface Mount; Code_JEDEC: MO-229; ComponentLink1Description: Datasheet; ComponentLink1URL: http://www.ti.com/general/docs/lit/getliterature.tsp?genericPartNumber=BQ24305&fileType=pdf
footprint DSG8-1600X900TP (SON, 8-Leads, Body 2x2mm, Pitch 0.5mm, Thermal Pad 1.6x0.9mm, TI Recommended)
pins: 1 IN (power) "Input power, connect to external DC supply. Connect external 0.1uF (minimum) ceramic capacitor to VSS", 2 VSS (power) "Ground terminal", 3 PGATE (out) "Gate drive for optional external P-FET", 4 NC "Do not connect to any external circuit. These pins may have internal connections used for test purposes.", 5 ~{CE} (in) "Chip enable input. Active low. When C\E\ = Hi, the input FET is off. Internally pulled down.", 6 VBAT (in) "Battery voltage sense input. Connect to pack positive terminal through a resistor.", 7 NC "Do not connect to any external circuit. These pins may have internal connections used for test purposes.", 8 OUT (power) "Output terminal to the charging system. Connect external 1uF capacitor (minimum) ceramic capacitor to VSS", 9 EP (power) "There is an internal electrical connection between the exposed thermal pad and the VSS pin of the device. The thermal pad must be connected to the same potential as the VSS pin on the printed circuit board. Do not use the (See Datasheet)"

## BQ24305DSGT
designator U?
Overvoltage and Overcurrent Protection IC and Li+ Charger Front End Protection IC, 0 to 125 degC, 8-pin WSON (DSG), Green (RoHS & no Sb/Br); PartNumber: BQ24305DSGT; Manufacturer: Texas Instruments; Lead Acid: N; DatasheetVersion: SLUS764C; PackageVersion: revB, Oct-2010; PackageReference: DSG8-1600X900TP; PackageDescription: 8-Pin Plastic Small Outline No-Lead, 2 x 2 x 0.8 mm Body, 0.5 mm Pitch, Exposed Pad; Supplier 1: Digi-Key; Supplier Part Number 1: 296-23518-2-ND; Supplier Part Number 3: 296-23518-6-ND; Eco-Plan: Green (RoHS & no Sb/Br); Li-Ion: N; Li-Polymer: N; NiCd: N; NiMH: N; Over Voltage Protection: N; SubFamily: Charger Front End Protection; Mounting Technology: Surface Mount; Code_JEDEC: MO-229; ComponentLink1Description: Datasheet; ComponentLink1URL: http://www.ti.com/general/docs/lit/getliterature.tsp?genericPartNumber=BQ24305&fileType=pdf
footprint DSG8-1600X900TP (SON, 8-Leads, Body 2x2mm, Pitch 0.5mm, Thermal Pad 1.6x0.9mm, TI Recommended)
pins: 1 IN (power) "Input power, connect to external DC supply. Connect external 0.1uF (minimum) ceramic capacitor to VSS", 2 VSS (power) "Ground terminal", 3 PGATE (out) "Gate drive for optional external P-FET", 4 NC "Do not connect to any external circuit. These pins may have internal connections used for test purposes.", 5 ~{CE} (in) "Chip enable input. Active low. When C\E\ = Hi, the input FET is off. Internally pulled down.", 6 VBAT (in) "Battery voltage sense input. Connect to pack positive terminal through a resistor.", 7 NC "Do not connect to any external circuit. These pins may have internal connections used for test purposes.", 8 OUT (power) "Output terminal to the charging system. Connect external 1uF capacitor (minimum) ceramic capacitor to VSS", 9 EP (power) "There is an internal electrical connection between the exposed thermal pad and the VSS pin of the device. The thermal pad must be connected to the same potential as the VSS pin on the printed circuit board. Do not use the (See Datasheet)"

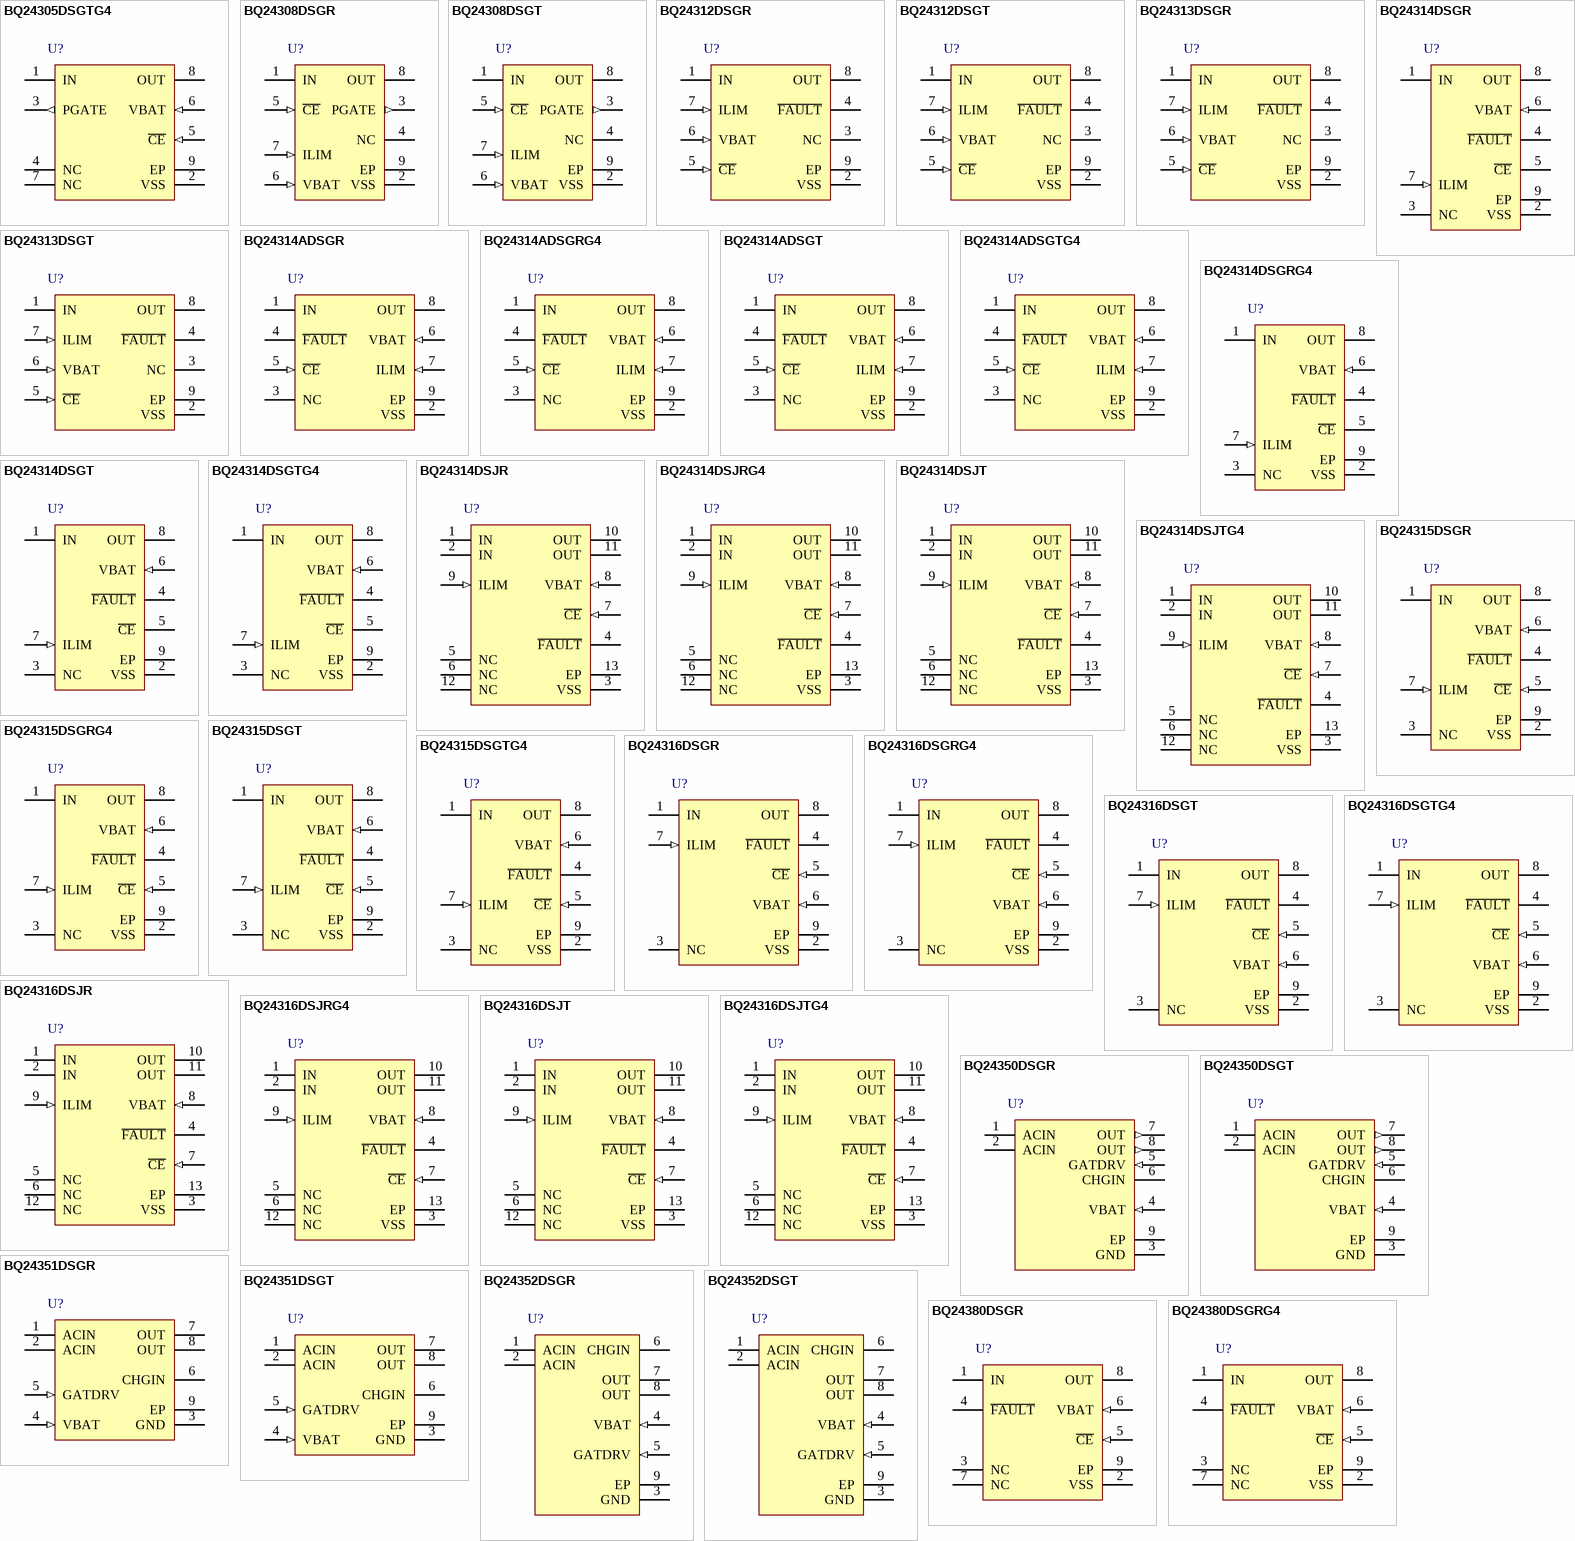
[diagram p23: symbols BQ24305DSGTG4 to BQ24380DSGRG4]

## BQ24305DSGTG4
designator U?
Overvoltage and Overcurrent Protection IC and Li+ Charger Front End Protection IC, 0 to 125 degC, 8-pin WSON (DSG), Green (RoHS & no Sb/Br); PartNumber: BQ24305DSGTG4; Manufacturer: Texas Instruments; Lead Acid: N; DatasheetVersion: SLUS764C; PackageVersion: revB, Oct-2010; PackageReference: DSG8-1600X900TP; PackageDescription: 8-Pin Plastic Small Outline No-Lead, 2 x 2 x 0.8 mm Body, 0.5 mm Pitch, Exposed Pad; Supplier 1: Digi-Key; Supplier Part Number 1: BQ24305DSGTG4-ND; Eco-Plan: Green (RoHS & no Sb/Br); Li-Ion: N; Li-Polymer: N; NiCd: N; NiMH: N; Over Voltage Protection: N; SubFamily: Charger Front End Protection; Mounting Technology: Surface Mount; Code_JEDEC: MO-229; ComponentLink1Description: Datasheet; ComponentLink1URL: http://www.ti.com/general/docs/lit/getliterature.tsp?genericPartNumber=BQ24305&fileType=pdf
footprint DSG8-1600X900TP (SON, 8-Leads, Body 2x2mm, Pitch 0.5mm, Thermal Pad 1.6x0.9mm, TI Recommended)
pins: 1 IN (power) "Input power, connect to external DC supply. Connect external 0.1uF (minimum) ceramic capacitor to VSS", 2 VSS (power) "Ground terminal", 3 PGATE (out) "Gate drive for optional external P-FET", 4 NC "Do not connect to any external circuit. These pins may have internal connections used for test purposes.", 5 ~{CE} (in) "Chip enable input. Active low. When C\E\ = Hi, the input FET is off. Internally pulled down.", 6 VBAT (in) "Battery voltage sense input. Connect to pack positive terminal through a resistor.", 7 NC "Do not connect to any external circuit. These pins may have internal connections used for test purposes.", 8 OUT (power) "Output terminal to the charging system. Connect external 1uF capacitor (minimum) ceramic capacitor to VSS", 9 EP (power) "There is an internal electrical connection between the exposed thermal pad and the VSS pin of the device. The thermal pad must be connected to the same potential as the VSS pin on the printed circuit board. Do not use the (See Datasheet)"

## BQ24308DSGR
designator U?
Overvoltage and Overcurrent Protection IC, 0 to 125 degC, 8-pin WSON (DSG), Green (RoHS & no Sb/Br); PartNumber: BQ24308DSGR; Manufacturer: Texas Instruments; Lead Acid: N; SubFamily: Charger Front End Protection; DatasheetVersion: SLUS977A; PackageVersion: revB, Oct-2010; PackageReference: DSG8-1600X900TP; PackageDescription: 8-Pin Plastic Small Outline No-Lead, 2 x 2 x 0.8 mm Body, 0.5 mm Pitch, Exposed Pad; Supplier 1: Digi-Key; Supplier Part Number 1: BQ24308DSGR-ND; Eco-Plan: Green (RoHS & no Sb/Br); Li-Ion: N; Li-Polymer: N; NiCd: N; NiMH: N; Over Voltage Protection: N; Mounting Technology: Surface Mount; Code_JEDEC: MO-229; ComponentLink1Description: Datasheet; ComponentLink1URL: http://www.ti.com/general/docs/lit/getliterature.tsp?genericPartNumber=BQ24308&fileType=pdf
footprint DSG8-1600X900TP (SON, 8-Leads, Body 2x2mm, Pitch 0.5mm, Thermal Pad 1.6x0.9mm, TI Recommended)
pins: 1 IN (power) "Input power, connect to external DC supply. Connect external 0.1uF (minimum) ceramic capacitor to VSS", 2 VSS (power) "Ground terminal", 3 PGATE (out) "Gate drive for optional external P-FET", 4 NC "Do not connect to any external circuit. This pin may have internal connections used for test purpose.", 5 ~{CE} (in) "Chip enable input. Active low. When C\E\= High, the input FET is off. Internally pulled down.", 6 VBAT (in) "Battery voltage sense input. Connect to pack positive terminal through a resistor.", 7 ILIM (in) "Input over-current threshold programming. An optional external resistor can be used to increase input over-current threshold. Connect a resistor to VSS to increase the OCP threshold.", 8 OUT (power) "Output terminal to the charging system. Connect external 1uF capacitor (minimum) ceramic capacitor to VSS", 9 EP (power) "There is an internal electrical connection between the exposed thermal pad and the VSS pin of the device.The thermal pad must be connected to the same potential as the VSS pin on the printed circuit board. Do not use the (See Datasheet)"

## BQ24308DSGT
designator U?
Overvoltage and Overcurrent Protection IC, 0 to 125 degC, 8-pin WSON (DSG), Green (RoHS & no Sb/Br); PartNumber: BQ24308DSGT; Manufacturer: Texas Instruments; Lead Acid: N; SubFamily: Charger Front End Protection; DatasheetVersion: SLUS977A; PackageVersion: revB, Oct-2010; PackageReference: DSG8-1600X900TP; PackageDescription: 8-Pin Plastic Small Outline No-Lead, 2 x 2 x 0.8 mm Body, 0.5 mm Pitch, Exposed Pad; Supplier 1: Digi-Key; Supplier Part Number 1: 296-25374-2-ND; Supplier Part Number 3: 296-25374-6-ND; Eco-Plan: Green (RoHS & no Sb/Br); Li-Ion: N; Li-Polymer: N; NiCd: N; NiMH: N; Over Voltage Protection: N; Mounting Technology: Surface Mount; Code_JEDEC: MO-229; ComponentLink1Description: Datasheet; ComponentLink1URL: http://www.ti.com/general/docs/lit/getliterature.tsp?genericPartNumber=BQ24308&fileType=pdf
footprint DSG8-1600X900TP (SON, 8-Leads, Body 2x2mm, Pitch 0.5mm, Thermal Pad 1.6x0.9mm, TI Recommended)
pins: 1 IN (power) "Input power, connect to external DC supply. Connect external 0.1uF (minimum) ceramic capacitor to VSS", 2 VSS (power) "Ground terminal", 3 PGATE (out) "Gate drive for optional external P-FET", 4 NC "Do not connect to any external circuit. This pin may have internal connections used for test purpose.", 5 ~{CE} (in) "Chip enable input. Active low. When C\E\= High, the input FET is off. Internally pulled down.", 6 VBAT (in) "Battery voltage sense input. Connect to pack positive terminal through a resistor.", 7 ILIM (in) "Input over-current threshold programming. An optional external resistor can be used to increase input over-current threshold. Connect a resistor to VSS to increase the OCP threshold.", 8 OUT (power) "Output terminal to the charging system. Connect external 1uF capacitor (minimum) ceramic capacitor to VSS", 9 EP (power) "There is an internal electrical connection between the exposed thermal pad and the VSS pin of the device.The thermal pad must be connected to the same potential as the VSS pin on the printed circuit board. Do not use the (See Datasheet)"